# EAGLE library part TDA7492P (library BaseApp)
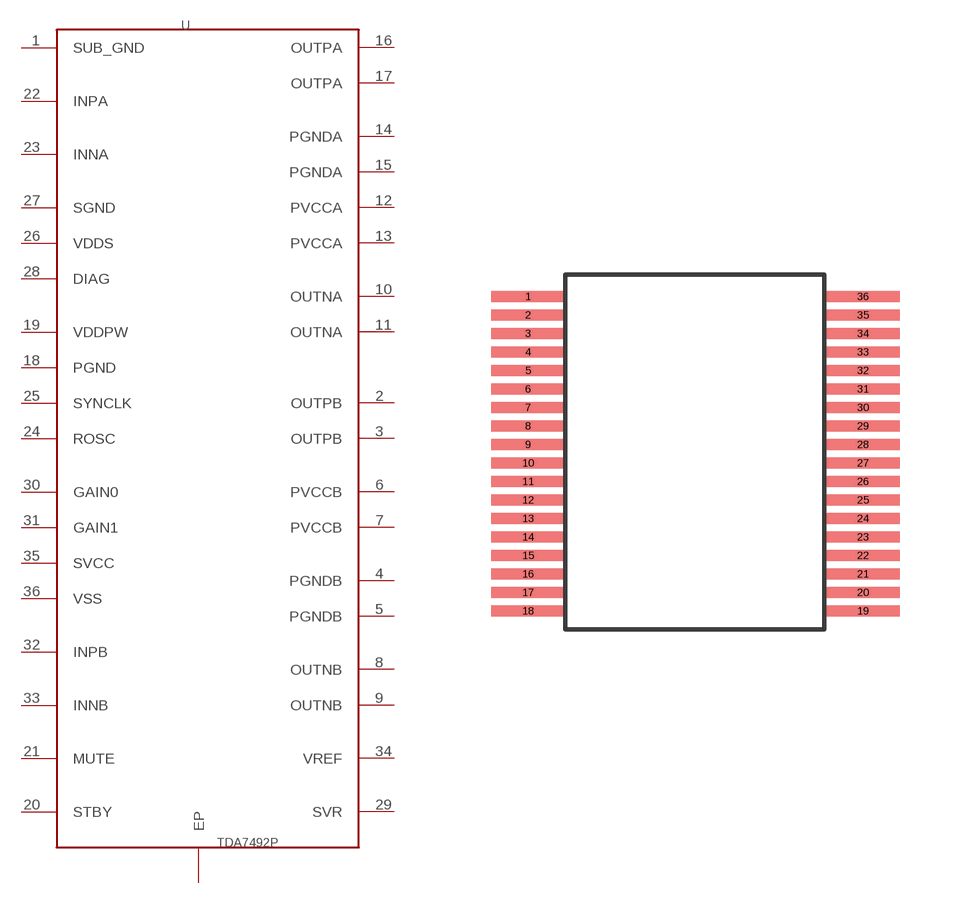
[diagram p110: symbol with the pads of POWERSSO-36_EPD; footprint POWERSSO-36_EPD]

Designator prefix -

## TDA7492P  [POWERSSO-36_EPD]
1  SUB_GND
2  OUTPB
3  OUTPB
4  PGNDB
5  PGNDB
6  PVCCB
7  PVCCB
8  OUTNB
9  OUTNB
10  OUTNA
11  OUTNA
12  PVCCA
13  PVCCA
14  PGNDA
15  PGNDA
16  OUTPA
17  OUTPA
18  PGND
19  VDDPW
20  STBY
21  MUTE
22  INPA
23  INNA
24  ROSC
25  SYNCLK
26  VDDS
27  SGND
28  DIAG
29  SVR
30  GAIN0
31  GAIN1
32  INPB
33  INNB
34  VREF
35  SVCC
36  VSS

## Footprint POWERSSO-36_EPD (pad centres in mm)
smd 2 x 0.3: 1 -4.5,4.2; 2 -4.5,3.7; 3 -4.5,3.2; 4 -4.5,2.7; 5 -4.5,2.2; 6 -4.5,1.7; 7 -4.5,1.2; 8 -4.5,0.7; 9 -4.5,0.2; 10 -4.5,-0.3; 11 -4.5,-0.8; 12 -4.5,-1.3; 13 -4.5,-1.8; 14 -4.5,-2.3; 15 -4.5,-2.8; 16 -4.5,-3.3; 17 -4.5,-3.8; 18 -4.5,-4.3; 19 4.55,-4.3; 20 4.55,-3.8; 21 4.55,-3.3; 22 4.55,-2.8; 23 4.55,-2.3; 24 4.55,-1.8; 25 4.55,-1.3; 26 4.55,-0.8; 27 4.55,-0.3; 28 4.55,0.2; 29 4.55,0.7; 30 4.55,1.2; 31 4.55,1.7; 32 4.55,2.2; 33 4.55,2.7; 34 4.55,3.2; 35 4.55,3.7; 36 4.55,4.2